# EAGLE library part HD6409 (library micro-harris)
MICROCONTROLLER/MEMORY DEVICE
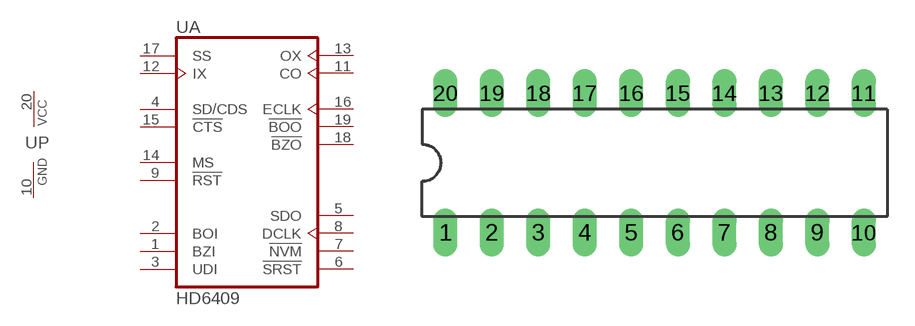
[diagram p5: symbol with the pads of DIL20; footprint DIL20]

Designator prefix U; gates A=HD6409 P=PWRN

## HD6409 (OC_FARNELL: unknown; OC_NEWARK: unknown)  [DIL20]
1  A:BZI  in
2  A:BOI  in
3  A:UDI  in
4  A:SD/CDS
5  A:SDO  out
6  A:!SRST  out
7  A:!NVM  out
8  A:DCLK  out
9  A:!RST  in
10  P:GND  pwr
11  A:CO  out
12  A:IX  in
13  A:OX  out
14  A:MS  in
15  A:!CTS  in
16  A:ECLK  out
17  A:SS  in
18  A:!BZO  out
19  A:!BOO  out
20  P:VCC  pwr

## Footprint DIL20 (pad centres in mm)
Dual In Line Package
drill 0.813 long: 1 -11.43,-3.81; 2 -8.89,-3.81; 3 -6.35,-3.81; 4 -3.81,-3.81; 5 -1.27,-3.81; 6 1.27,-3.81; 7 3.81,-3.81; 8 6.35,-3.81; 9 8.89,-3.81; 10 11.43,-3.81; 11 11.43,3.81; 12 8.89,3.81; 13 6.35,3.81; 14 3.81,3.81; 15 1.27,3.81; 16 -1.27,3.81; 17 -3.81,3.81; 18 -6.35,3.81; 19 -8.89,3.81; 20 -11.43,3.81